# EAGLE library part DF3-11S (library con-hirose)
Single row female connector 2mm 11 way
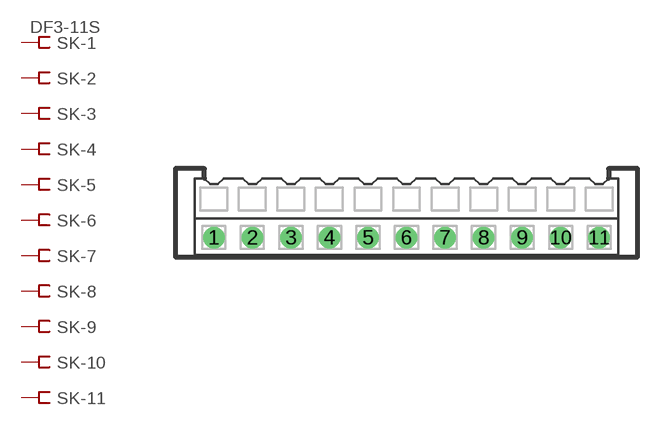
[diagram p10: symbol with the pads of DF3S-11; footprint DF3S-11]

Designator prefix SK; gates -1=FV -2=F -3=F -4=F -5=F -6=F -7=F -8=F -9=F -10=F -11=F

## DF3-11S  [DF3S-11]
1  -1:S  pas
2  -2:S  pas
3  -3:S  pas
4  -4:S  pas
5  -5:S  pas
6  -6:S  pas
7  -7:S  pas
8  -8:S  pas
9  -9:S  pas
10  -10:S  pas
11  -11:S  pas

## Footprint DF3S-11 (pad centres in mm)
Single row connector 2mm 11 way
drill 0.6 round: 1 -10,-1; 2 -8,-1; 3 -6,-1; 4 -4,-1; 5 -2,-1; 6 0,-1; 7 2,-1; 8 4,-1; 9 6,-1; 10 8,-1; 11 10,-1